# EAGLE library part TEENSY2 (library bodger)
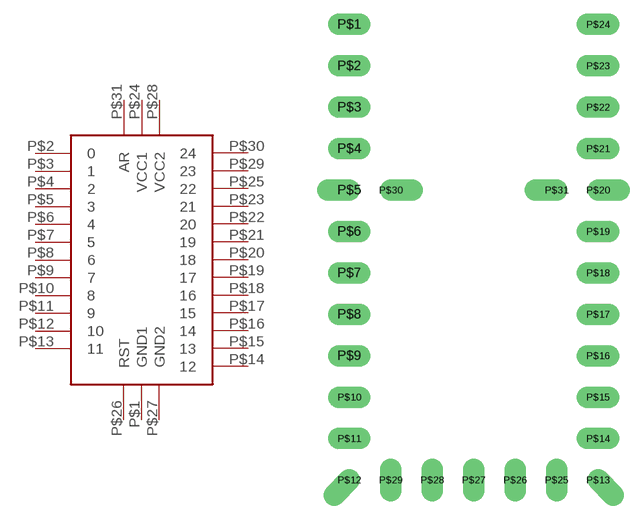
[diagram p11: symbol with the pads of TEENSY2; footprint TEENSY2]

Designator prefix -

## TEENSY2  [TEENSY2]
P$1  GND1
P$2  0
P$3  1
P$4  2
P$5  3
P$6  4
P$7  5
P$8  6
P$9  7
P$10  8
P$11  9
P$12  10
P$13  11
P$14  12
P$15  13
P$16  14
P$17  15
P$18  16
P$19  17
P$20  18
P$21  19
P$22  20
P$23  21
P$24  VCC1
P$25  22
P$26  RST
P$27  GND2
P$28  VCC2
P$29  23
P$30  24
P$31  AR

## Footprint TEENSY2 (pad centres in mm)
drill 0.8 long: P$1 -7.62,15.24; P$2 -7.62,12.7; P$3 -7.62,10.16; P$4 -7.62,7.62; P$6 -7.62,2.54; P$7 -7.62,0; P$8 -7.62,-2.54; P$9 -7.62,-5.08; P$10 -7.62,-7.62; P$11 -7.62,-10.16; P$14 7.62,-10.16; P$15 7.62,-7.62; P$16 7.62,-5.08; P$17 7.62,-2.54; P$18 7.62,0; P$19 7.62,2.54; P$21 7.62,7.62; P$22 7.62,10.16; P$23 7.62,12.7; P$24 7.62,15.24; P$25 5.08,-12.7; P$26 2.54,-12.7; P$27 0,-12.7; P$28 -2.54,-12.7; P$29 -5.08,-12.7
drill 0.8 offset: P$5 -7.62,5.08; P$12 -7.62,-12.7; P$13 7.62,-12.7; P$20 7.62,5.08; P$30 -5.08,5.08; P$31 5.08,5.08